# EAGLE library part RN-52-CN1 (library PartsForProto)
RN-52 インターフェース用ピン
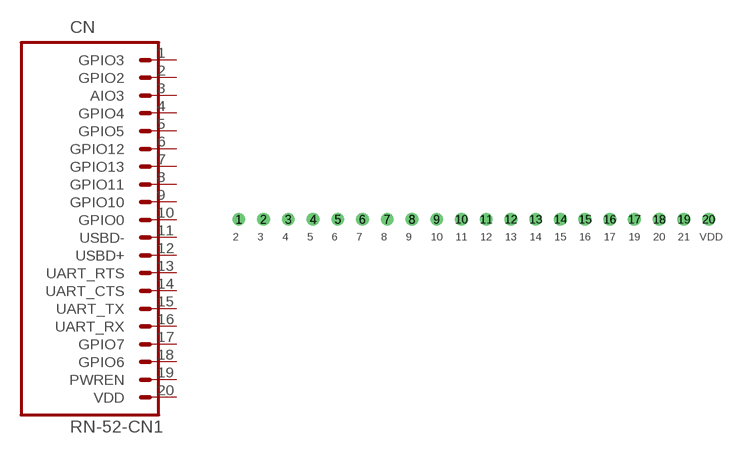
[diagram p6: symbol with the pads of RN-52-CN1; footprint RN-52-CN1]

Designator prefix CN

## RN-52-CN1  [RN-52-CN1]
1  GPIO3
2  GPIO2
3  AIO3
4  GPIO4
5  GPIO5
6  GPIO12
7  GPIO13
8  GPIO11
9  GPIO10
10  GPIO0
11  USBD-
12  USBD+
13  UART_RTS
14  UART_CTS
15  UART_TX
16  UART_RX
17  GPIO7
18  GPIO6
19  PWREN
20  VDD

## Footprint RN-52-CN1 (pad centres in mm)
RN-52 インターフェース用ピン
drill 0.813: 1 0,0; 2 2.54,0; 3 5.08,0; 4 7.62,0; 5 10.16,0; 6 12.7,0; 7 15.24,0; 8 17.78,0; 9 20.32,0; 10 22.86,0; 11 25.4,0; 12 27.94,0; 13 30.48,0; 14 33.02,0; 15 35.56,0; 16 38.1,0; 17 40.64,0; 18 43.18,0; 19 45.72,0; 20 48.26,0